# Altium schematic symbol library D.Schlib: 1 symbol
Pins are listed as number, name and electrical type; pins without a type are passive.

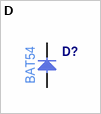
[diagram p0: symbol D]

## D
designator D?  Manufacturer Part Number: BAT54  (hidden comment: D)
pins: 1 C, 2 A